# Altium schematic symbol library Converter_ACDC.SchLib: 233 symbols (part 1 of 3)
Pins are listed as number, name and electrical type; pins without a type are passive.

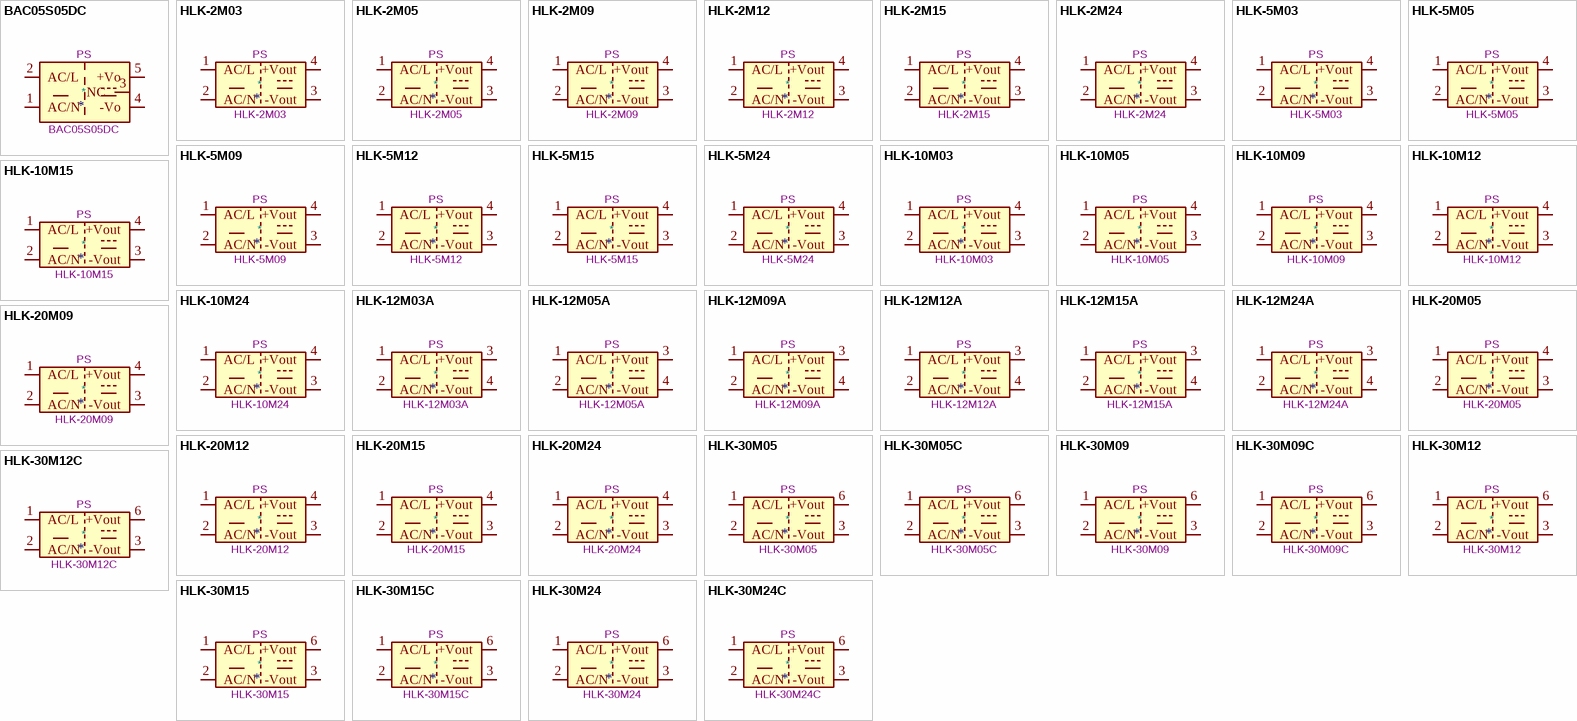
[diagram p0: symbols BAC05S05DC to HLK-30M24C]

## BAC05S05DC
designator *  value BAC05S05DC  Reference: PS
5V, 1A, 5W, Isolated, AC-DC; ki_keywords: Miniature Module-type Power Supply muRataPs; ki_fp_filters: Converter*ACDC*Murata*BAC05S*DC*THT*; Footprint: Converter_ACDC:Converter_ACDC_Murata_BAC05SxxDC_THT; Datasheet: https://www.murata.com/products/productdata/8809982558238/KAC-BAC05.pdf; Description_: 5V, 1A, 5W, Isolated, AC-DC
pins: 1 AC/N, 2 AC/L, 3 NC, 4 -Vo, 5 +Vo

## HLK-2M03
designator *  value HLK-2M03  Reference: PS
Compact AC/DC board mount power module 2W 3.3V; ki_keywords: AC/DC module power supply; ki_fp_filters: Converter*ACDC*Hi?Link*HLK?2M*; Footprint: Converter_ACDC:Converter_ACDC_Hi-Link_HLK-2Mxx; Datasheet: https://h.hlktech.com/download/ACDC%E7%94%B5%E6%BA%90%E6%A8%A1%E5%9D%972W%E7%B3%BB%E5%88%97/1/%E6%B5%B7%E5%87%8C%E7%A7%912W%E7%B3%BB%E5%88%97%E7%94%B5%E6%BA%90%E6%A8%A1%E5%9D%97%E8%AF%B4%E6%98%8E%E4%B9%A6V2.6.pdf; Description_: Compact AC/DC board mount power module 2W 3.3V
pins: 1 AC/L, 2 AC/N, 3 -Vout, 4 +Vout

## HLK-2M05
designator *  value HLK-2M05  Reference: PS
Compact AC/DC board mount power module 2W 5V; ki_keywords: AC/DC module power supply; ki_fp_filters: Converter*ACDC*Hi?Link*HLK?2M*; Footprint: Converter_ACDC:Converter_ACDC_Hi-Link_HLK-2Mxx; Datasheet: https://h.hlktech.com/download/ACDC%E7%94%B5%E6%BA%90%E6%A8%A1%E5%9D%972W%E7%B3%BB%E5%88%97/1/%E6%B5%B7%E5%87%8C%E7%A7%912W%E7%B3%BB%E5%88%97%E7%94%B5%E6%BA%90%E6%A8%A1%E5%9D%97%E8%AF%B4%E6%98%8E%E4%B9%A6V2.6.pdf; Description_: Compact AC/DC board mount power module 2W 5V
pins: 1 AC/L, 2 AC/N, 3 -Vout, 4 +Vout

## HLK-2M09
designator *  value HLK-2M09  Reference: PS
Compact AC/DC board mount power module 2W 9V; ki_keywords: AC/DC module power supply; ki_fp_filters: Converter*ACDC*Hi?Link*HLK?2M*; Footprint: Converter_ACDC:Converter_ACDC_Hi-Link_HLK-2Mxx; Datasheet: https://h.hlktech.com/download/ACDC%E7%94%B5%E6%BA%90%E6%A8%A1%E5%9D%972W%E7%B3%BB%E5%88%97/1/%E6%B5%B7%E5%87%8C%E7%A7%912W%E7%B3%BB%E5%88%97%E7%94%B5%E6%BA%90%E6%A8%A1%E5%9D%97%E8%AF%B4%E6%98%8E%E4%B9%A6V2.6.pdf; Description_: Compact AC/DC board mount power module 2W 9V
pins: 1 AC/L, 2 AC/N, 3 -Vout, 4 +Vout

## HLK-2M12
designator *  value HLK-2M12  Reference: PS
Compact AC/DC board mount power module 2W 12V; ki_keywords: AC/DC module power supply; ki_fp_filters: Converter*ACDC*Hi?Link*HLK?2M*; Footprint: Converter_ACDC:Converter_ACDC_Hi-Link_HLK-2Mxx; Datasheet: https://h.hlktech.com/download/ACDC%E7%94%B5%E6%BA%90%E6%A8%A1%E5%9D%972W%E7%B3%BB%E5%88%97/1/%E6%B5%B7%E5%87%8C%E7%A7%912W%E7%B3%BB%E5%88%97%E7%94%B5%E6%BA%90%E6%A8%A1%E5%9D%97%E8%AF%B4%E6%98%8E%E4%B9%A6V2.6.pdf; Description_: Compact AC/DC board mount power module 2W 12V
pins: 1 AC/L, 2 AC/N, 3 -Vout, 4 +Vout

## HLK-2M15
designator *  value HLK-2M15  Reference: PS
Compact AC/DC board mount power module 2W 15V; ki_keywords: AC/DC module power supply; ki_fp_filters: Converter*ACDC*Hi?Link*HLK?2M*; Footprint: Converter_ACDC:Converter_ACDC_Hi-Link_HLK-2Mxx; Datasheet: https://h.hlktech.com/download/ACDC%E7%94%B5%E6%BA%90%E6%A8%A1%E5%9D%972W%E7%B3%BB%E5%88%97/1/%E6%B5%B7%E5%87%8C%E7%A7%912W%E7%B3%BB%E5%88%97%E7%94%B5%E6%BA%90%E6%A8%A1%E5%9D%97%E8%AF%B4%E6%98%8E%E4%B9%A6V2.6.pdf; Description_: Compact AC/DC board mount power module 2W 15V
pins: 1 AC/L, 2 AC/N, 3 -Vout, 4 +Vout

## HLK-2M24
designator *  value HLK-2M24  Reference: PS
Compact AC/DC board mount power module 2W 24V; ki_keywords: AC/DC module power supply; ki_fp_filters: Converter*ACDC*Hi?Link*HLK?2M*; Footprint: Converter_ACDC:Converter_ACDC_Hi-Link_HLK-2Mxx; Datasheet: https://h.hlktech.com/download/ACDC%E7%94%B5%E6%BA%90%E6%A8%A1%E5%9D%972W%E7%B3%BB%E5%88%97/1/%E6%B5%B7%E5%87%8C%E7%A7%912W%E7%B3%BB%E5%88%97%E7%94%B5%E6%BA%90%E6%A8%A1%E5%9D%97%E8%AF%B4%E6%98%8E%E4%B9%A6V2.6.pdf; Description_: Compact AC/DC board mount power module 2W 24V
pins: 1 AC/L, 2 AC/N, 3 -Vout, 4 +Vout

## HLK-5M03
designator *  value HLK-5M03  Reference: PS
Compact AC/DC board mount power module 5W, 3.3V 1.5A; ki_keywords: AC/DC module power supply; ki_fp_filters: Converter*ACDC*Hi?Link*HLK?5M*; Footprint: Converter_ACDC:Converter_ACDC_Hi-Link_HLK-5Mxx; Datasheet: http://h.hlktech.com/download/ACDC%E7%94%B5%E6%BA%90%E6%A8%A1%E5%9D%975W%E7%B3%BB%E5%88%97/1/%E6%B5%B7%E5%87%8C%E7%A7%915W%E7%B3%BB%E5%88%97%E7%94%B5%E6%BA%90%E6%A8%A1%E5%9D%97%E8%A7%84%E6%A0%BC%E4%B9%A6V2.8.pdf; Description_: Compact AC/DC board mount power module 5W, 3.3V 1.5A
pins: 1 AC/L, 2 AC/N, 3 -Vout, 4 +Vout

## HLK-5M05
designator *  value HLK-5M05  Reference: PS
Compact AC/DC board mount power module 5W, 5V 1A; ki_keywords: AC/DC module power supply; ki_fp_filters: Converter*ACDC*Hi?Link*HLK?5M*; Footprint: Converter_ACDC:Converter_ACDC_Hi-Link_HLK-5Mxx; Datasheet: http://h.hlktech.com/download/ACDC%E7%94%B5%E6%BA%90%E6%A8%A1%E5%9D%975W%E7%B3%BB%E5%88%97/1/%E6%B5%B7%E5%87%8C%E7%A7%915W%E7%B3%BB%E5%88%97%E7%94%B5%E6%BA%90%E6%A8%A1%E5%9D%97%E8%A7%84%E6%A0%BC%E4%B9%A6V2.8.pdf; Description_: Compact AC/DC board mount power module 5W, 5V 1A
pins: 1 AC/L, 2 AC/N, 3 -Vout, 4 +Vout

## HLK-5M09
designator *  value HLK-5M09  Reference: PS
Compact AC/DC board mount power module 5W, 9V 0.560A; ki_keywords: AC/DC module power supply; ki_fp_filters: Converter*ACDC*Hi?Link*HLK?5M*; Footprint: Converter_ACDC:Converter_ACDC_Hi-Link_HLK-5Mxx; Datasheet: http://h.hlktech.com/download/ACDC%E7%94%B5%E6%BA%90%E6%A8%A1%E5%9D%975W%E7%B3%BB%E5%88%97/1/%E6%B5%B7%E5%87%8C%E7%A7%915W%E7%B3%BB%E5%88%97%E7%94%B5%E6%BA%90%E6%A8%A1%E5%9D%97%E8%A7%84%E6%A0%BC%E4%B9%A6V2.8.pdf; Description_: Compact AC/DC board mount power module 5W, 9V 0.560A
pins: 1 AC/L, 2 AC/N, 3 -Vout, 4 +Vout

## HLK-5M12
designator *  value HLK-5M12  Reference: PS
Compact AC/DC board mount power module 5W, 12V 0.420A; ki_keywords: AC/DC module power supply; ki_fp_filters: Converter*ACDC*Hi?Link*HLK?5M*; Footprint: Converter_ACDC:Converter_ACDC_Hi-Link_HLK-5Mxx; Datasheet: http://h.hlktech.com/download/ACDC%E7%94%B5%E6%BA%90%E6%A8%A1%E5%9D%975W%E7%B3%BB%E5%88%97/1/%E6%B5%B7%E5%87%8C%E7%A7%915W%E7%B3%BB%E5%88%97%E7%94%B5%E6%BA%90%E6%A8%A1%E5%9D%97%E8%A7%84%E6%A0%BC%E4%B9%A6V2.8.pdf; Description_: Compact AC/DC board mount power module 5W, 12V 0.420A
pins: 1 AC/L, 2 AC/N, 3 -Vout, 4 +Vout

## HLK-5M15
designator *  value HLK-5M15  Reference: PS
Compact AC/DC board mount power module 5W, 15V 0.333A; ki_keywords: AC/DC module power supply; ki_fp_filters: Converter*ACDC*Hi?Link*HLK?5M*; Footprint: Converter_ACDC:Converter_ACDC_Hi-Link_HLK-5Mxx; Datasheet: http://h.hlktech.com/download/ACDC%E7%94%B5%E6%BA%90%E6%A8%A1%E5%9D%975W%E7%B3%BB%E5%88%97/1/%E6%B5%B7%E5%87%8C%E7%A7%915W%E7%B3%BB%E5%88%97%E7%94%B5%E6%BA%90%E6%A8%A1%E5%9D%97%E8%A7%84%E6%A0%BC%E4%B9%A6V2.8.pdf; Description_: Compact AC/DC board mount power module 5W, 15V 0.333A
pins: 1 AC/L, 2 AC/N, 3 -Vout, 4 +Vout

## HLK-5M24
designator *  value HLK-5M24  Reference: PS
Compact AC/DC board mount power module 5W, 24V 0.208A; ki_keywords: AC/DC module power supply; ki_fp_filters: Converter*ACDC*Hi?Link*HLK?5M*; Footprint: Converter_ACDC:Converter_ACDC_Hi-Link_HLK-5Mxx; Datasheet: http://h.hlktech.com/download/ACDC%E7%94%B5%E6%BA%90%E6%A8%A1%E5%9D%975W%E7%B3%BB%E5%88%97/1/%E6%B5%B7%E5%87%8C%E7%A7%915W%E7%B3%BB%E5%88%97%E7%94%B5%E6%BA%90%E6%A8%A1%E5%9D%97%E8%A7%84%E6%A0%BC%E4%B9%A6V2.8.pdf; Description_: Compact AC/DC board mount power module 5W, 24V 0.208A
pins: 1 AC/L, 2 AC/N, 3 -Vout, 4 +Vout

## HLK-10M03
designator *  value HLK-10M03  Reference: PS
Compact AC/DC board mount power module 10W 3.3V; ki_keywords: AC/DC module power supply; ki_fp_filters: Converter*ACDC*Hi?Link*HLK?10M*; Footprint: Converter_ACDC:Converter_ACDC_Hi-Link_HLK-10Mxx; Datasheet: http://h.hlktech.com/download/ACDC%E7%94%B5%E6%BA%90%E6%A8%A1%E5%9D%9710W%E7%B3%BB%E5%88%97/1/%E6%B5%B7%E5%87%8C%E7%A7%9110W%E7%B3%BB%E5%88%97%E7%94%B5%E6%BA%90%E6%A8%A1%E5%9D%97%E8%A7%84%E6%A0%BC%E4%B9%A6V1.8.pdf; Description_: Compact AC/DC board mount power module 10W 3.3V
pins: 1 AC/L, 2 AC/N, 3 -Vout, 4 +Vout

## HLK-10M05
designator *  value HLK-10M05  Reference: PS
Compact AC/DC board mount power module 10W 5V; ki_keywords: AC/DC module power supply; ki_fp_filters: Converter*ACDC*Hi?Link*HLK?10M*; Footprint: Converter_ACDC:Converter_ACDC_Hi-Link_HLK-10Mxx; Datasheet: http://h.hlktech.com/download/ACDC%E7%94%B5%E6%BA%90%E6%A8%A1%E5%9D%9710W%E7%B3%BB%E5%88%97/1/%E6%B5%B7%E5%87%8C%E7%A7%9110W%E7%B3%BB%E5%88%97%E7%94%B5%E6%BA%90%E6%A8%A1%E5%9D%97%E8%A7%84%E6%A0%BC%E4%B9%A6V1.8.pdf; Description_: Compact AC/DC board mount power module 10W 5V
pins: 1 AC/L, 2 AC/N, 3 -Vout, 4 +Vout

## HLK-10M09
designator *  value HLK-10M09  Reference: PS
Compact AC/DC board mount power module 10W 9V; ki_keywords: AC/DC module power supply; ki_fp_filters: Converter*ACDC*Hi?Link*HLK?10M*; Footprint: Converter_ACDC:Converter_ACDC_Hi-Link_HLK-10Mxx; Datasheet: http://h.hlktech.com/download/ACDC%E7%94%B5%E6%BA%90%E6%A8%A1%E5%9D%9710W%E7%B3%BB%E5%88%97/1/%E6%B5%B7%E5%87%8C%E7%A7%9110W%E7%B3%BB%E5%88%97%E7%94%B5%E6%BA%90%E6%A8%A1%E5%9D%97%E8%A7%84%E6%A0%BC%E4%B9%A6V1.8.pdf; Description_: Compact AC/DC board mount power module 10W 9V
pins: 1 AC/L, 2 AC/N, 3 -Vout, 4 +Vout

## HLK-10M12
designator *  value HLK-10M12  Reference: PS
Compact AC/DC board mount power module 10W 12V; ki_keywords: AC/DC module power supply; ki_fp_filters: Converter*ACDC*Hi?Link*HLK?10M*; Footprint: Converter_ACDC:Converter_ACDC_Hi-Link_HLK-10Mxx; Datasheet: http://h.hlktech.com/download/ACDC%E7%94%B5%E6%BA%90%E6%A8%A1%E5%9D%9710W%E7%B3%BB%E5%88%97/1/%E6%B5%B7%E5%87%8C%E7%A7%9110W%E7%B3%BB%E5%88%97%E7%94%B5%E6%BA%90%E6%A8%A1%E5%9D%97%E8%A7%84%E6%A0%BC%E4%B9%A6V1.8.pdf; Description_: Compact AC/DC board mount power module 10W 12V
pins: 1 AC/L, 2 AC/N, 3 -Vout, 4 +Vout

## HLK-10M15
designator *  value HLK-10M15  Reference: PS
Compact AC/DC board mount power module 10W 15V; ki_keywords: AC/DC module power supply; ki_fp_filters: Converter*ACDC*Hi?Link*HLK?10M*; Footprint: Converter_ACDC:Converter_ACDC_Hi-Link_HLK-10Mxx; Datasheet: http://h.hlktech.com/download/ACDC%E7%94%B5%E6%BA%90%E6%A8%A1%E5%9D%9710W%E7%B3%BB%E5%88%97/1/%E6%B5%B7%E5%87%8C%E7%A7%9110W%E7%B3%BB%E5%88%97%E7%94%B5%E6%BA%90%E6%A8%A1%E5%9D%97%E8%A7%84%E6%A0%BC%E4%B9%A6V1.8.pdf; Description_: Compact AC/DC board mount power module 10W 15V
pins: 1 AC/L, 2 AC/N, 3 -Vout, 4 +Vout

## HLK-10M24
designator *  value HLK-10M24  Reference: PS
Compact AC/DC board mount power module 10W 24V; ki_keywords: AC/DC module power supply; ki_fp_filters: Converter*ACDC*Hi?Link*HLK?10M*; Footprint: Converter_ACDC:Converter_ACDC_Hi-Link_HLK-10Mxx; Datasheet: http://h.hlktech.com/download/ACDC%E7%94%B5%E6%BA%90%E6%A8%A1%E5%9D%9710W%E7%B3%BB%E5%88%97/1/%E6%B5%B7%E5%87%8C%E7%A7%9110W%E7%B3%BB%E5%88%97%E7%94%B5%E6%BA%90%E6%A8%A1%E5%9D%97%E8%A7%84%E6%A0%BC%E4%B9%A6V1.8.pdf; Description_: Compact AC/DC board mount power module 10W 24V
pins: 1 AC/L, 2 AC/N, 3 -Vout, 4 +Vout

## HLK-12M03A
designator *  value HLK-12M03A  Reference: PS
Compact AC/DC board mount power module 12W 3.3V; ki_keywords: AC/DC module power supply; ki_fp_filters: Converter*ACDC*Hi?Link*HLK?12M*; Footprint: Converter_ACDC:Converter_ACDC_Hi-Link_HLK-12MxxA; Datasheet: https://h.hlktech.com/download/ACDC%E7%94%B5%E6%BA%90%E6%A8%A1%E5%9D%9712W%E7%B3%BB%E5%88%97/1/12W%E7%B3%BB%E5%88%97%E8%A7%84%E6%A0%BC%E4%B9%A6.pdf; Description_: Compact AC/DC board mount power module 12W 3.3V
pins: 1 AC/L, 2 AC/N, 3 +Vout, 4 -Vout

## HLK-12M05A
designator *  value HLK-12M05A  Reference: PS
Compact AC/DC board mount power module 12W 5V; ki_keywords: AC/DC module power supply; ki_fp_filters: Converter*ACDC*Hi?Link*HLK?12M*; Footprint: Converter_ACDC:Converter_ACDC_Hi-Link_HLK-12MxxA; Datasheet: https://h.hlktech.com/download/ACDC%E7%94%B5%E6%BA%90%E6%A8%A1%E5%9D%9712W%E7%B3%BB%E5%88%97/1/12W%E7%B3%BB%E5%88%97%E8%A7%84%E6%A0%BC%E4%B9%A6.pdf; Description_: Compact AC/DC board mount power module 12W 5V
pins: 1 AC/L, 2 AC/N, 3 +Vout, 4 -Vout

## HLK-12M09A
designator *  value HLK-12M09A  Reference: PS
Compact AC/DC board mount power module 12W 9V; ki_keywords: AC/DC module power supply; ki_fp_filters: Converter*ACDC*Hi?Link*HLK?12M*; Footprint: Converter_ACDC:Converter_ACDC_Hi-Link_HLK-12MxxA; Datasheet: https://h.hlktech.com/download/ACDC%E7%94%B5%E6%BA%90%E6%A8%A1%E5%9D%9712W%E7%B3%BB%E5%88%97/1/12W%E7%B3%BB%E5%88%97%E8%A7%84%E6%A0%BC%E4%B9%A6.pdf; Description_: Compact AC/DC board mount power module 12W 9V
pins: 1 AC/L, 2 AC/N, 3 +Vout, 4 -Vout

## HLK-12M12A
designator *  value HLK-12M12A  Reference: PS
Compact AC/DC board mount power module 12W 12V; ki_keywords: AC/DC module power supply; ki_fp_filters: Converter*ACDC*Hi?Link*HLK?12M*; Footprint: Converter_ACDC:Converter_ACDC_Hi-Link_HLK-12MxxA; Datasheet: https://h.hlktech.com/download/ACDC%E7%94%B5%E6%BA%90%E6%A8%A1%E5%9D%9712W%E7%B3%BB%E5%88%97/1/12W%E7%B3%BB%E5%88%97%E8%A7%84%E6%A0%BC%E4%B9%A6.pdf; Description_: Compact AC/DC board mount power module 12W 12V
pins: 1 AC/L, 2 AC/N, 3 +Vout, 4 -Vout

## HLK-12M15A
designator *  value HLK-12M15A  Reference: PS
Compact AC/DC board mount power module 12W 15V; ki_keywords: AC/DC module power supply; ki_fp_filters: Converter*ACDC*Hi?Link*HLK?12M*; Footprint: Converter_ACDC:Converter_ACDC_Hi-Link_HLK-12MxxA; Datasheet: https://h.hlktech.com/download/ACDC%E7%94%B5%E6%BA%90%E6%A8%A1%E5%9D%9712W%E7%B3%BB%E5%88%97/1/12W%E7%B3%BB%E5%88%97%E8%A7%84%E6%A0%BC%E4%B9%A6.pdf; Description_: Compact AC/DC board mount power module 12W 15V
pins: 1 AC/L, 2 AC/N, 3 +Vout, 4 -Vout

## HLK-12M24A
designator *  value HLK-12M24A  Reference: PS
Compact AC/DC board mount power module 12W 24V; ki_keywords: AC/DC module power supply; ki_fp_filters: Converter*ACDC*Hi?Link*HLK?12M*; Footprint: Converter_ACDC:Converter_ACDC_Hi-Link_HLK-12MxxA; Datasheet: https://h.hlktech.com/download/ACDC%E7%94%B5%E6%BA%90%E6%A8%A1%E5%9D%9712W%E7%B3%BB%E5%88%97/1/12W%E7%B3%BB%E5%88%97%E8%A7%84%E6%A0%BC%E4%B9%A6.pdf; Description_: Compact AC/DC board mount power module 12W 24V
pins: 1 AC/L, 2 AC/N, 3 +Vout, 4 -Vout

## HLK-20M05
designator *  value HLK-20M05  Reference: PS
Compact AC/DC board mount power module 20W 5V; ki_keywords: AC/DC module power supply; ki_fp_filters: Converter*ACDC*Hi?Link*HLK?20M*; Footprint: Converter_ACDC:Converter_ACDC_Hi-Link_HLK-20Mxx; Datasheet: https://h.hlktech.com/download/ACDC%E7%94%B5%E6%BA%90%E6%A8%A1%E5%9D%9720W%E7%B3%BB%E5%88%97/1/%E6%B5%B7%E5%87%8C%E7%A7%9120W%E7%B3%BB%E5%88%97%E7%94%B5%E6%BA%90%E6%A8%A1%E5%9D%97%E8%A7%84%E6%A0%BC%E4%B9%A6V1.6.pdf; Description_: Compact AC/DC board mount power module 20W 5V
pins: 1 AC/L, 2 AC/N, 3 -Vout, 4 +Vout

## HLK-20M09
designator *  value HLK-20M09  Reference: PS
Compact AC/DC board mount power module 20W 9V; ki_keywords: AC/DC module power supply; ki_fp_filters: Converter*ACDC*Hi?Link*HLK?20M*; Footprint: Converter_ACDC:Converter_ACDC_Hi-Link_HLK-20Mxx; Datasheet: https://h.hlktech.com/download/ACDC%E7%94%B5%E6%BA%90%E6%A8%A1%E5%9D%9720W%E7%B3%BB%E5%88%97/1/%E6%B5%B7%E5%87%8C%E7%A7%9120W%E7%B3%BB%E5%88%97%E7%94%B5%E6%BA%90%E6%A8%A1%E5%9D%97%E8%A7%84%E6%A0%BC%E4%B9%A6V1.6.pdf; Description_: Compact AC/DC board mount power module 20W 9V
pins: 1 AC/L, 2 AC/N, 3 -Vout, 4 +Vout

## HLK-20M12
designator *  value HLK-20M12  Reference: PS
Compact AC/DC board mount power module 20W 12V; ki_keywords: AC/DC module power supply; ki_fp_filters: Converter*ACDC*Hi?Link*HLK?20M*; Footprint: Converter_ACDC:Converter_ACDC_Hi-Link_HLK-20Mxx; Datasheet: https://h.hlktech.com/download/ACDC%E7%94%B5%E6%BA%90%E6%A8%A1%E5%9D%9720W%E7%B3%BB%E5%88%97/1/%E6%B5%B7%E5%87%8C%E7%A7%9120W%E7%B3%BB%E5%88%97%E7%94%B5%E6%BA%90%E6%A8%A1%E5%9D%97%E8%A7%84%E6%A0%BC%E4%B9%A6V1.6.pdf; Description_: Compact AC/DC board mount power module 20W 12V
pins: 1 AC/L, 2 AC/N, 3 -Vout, 4 +Vout

## HLK-20M15
designator *  value HLK-20M15  Reference: PS
Compact AC/DC board mount power module 20W 15V; ki_keywords: AC/DC module power supply; ki_fp_filters: Converter*ACDC*Hi?Link*HLK?20M*; Footprint: Converter_ACDC:Converter_ACDC_Hi-Link_HLK-20Mxx; Datasheet: https://h.hlktech.com/download/ACDC%E7%94%B5%E6%BA%90%E6%A8%A1%E5%9D%9720W%E7%B3%BB%E5%88%97/1/%E6%B5%B7%E5%87%8C%E7%A7%9120W%E7%B3%BB%E5%88%97%E7%94%B5%E6%BA%90%E6%A8%A1%E5%9D%97%E8%A7%84%E6%A0%BC%E4%B9%A6V1.6.pdf; Description_: Compact AC/DC board mount power module 20W 15V
pins: 1 AC/L, 2 AC/N, 3 -Vout, 4 +Vout

## HLK-20M24
designator *  value HLK-20M24  Reference: PS
Compact AC/DC board mount power module 20W 24V; ki_keywords: AC/DC module power supply; ki_fp_filters: Converter*ACDC*Hi?Link*HLK?20M*; Footprint: Converter_ACDC:Converter_ACDC_Hi-Link_HLK-20Mxx; Datasheet: https://h.hlktech.com/download/ACDC%E7%94%B5%E6%BA%90%E6%A8%A1%E5%9D%9720W%E7%B3%BB%E5%88%97/1/%E6%B5%B7%E5%87%8C%E7%A7%9120W%E7%B3%BB%E5%88%97%E7%94%B5%E6%BA%90%E6%A8%A1%E5%9D%97%E8%A7%84%E6%A0%BC%E4%B9%A6V1.6.pdf; Description_: Compact AC/DC board mount power module 20W 24V
pins: 1 AC/L, 2 AC/N, 3 -Vout, 4 +Vout

## HLK-30M05
designator *  value HLK-30M05  Reference: PS
Compact AC/DC board mount power module 30W 5V; ki_keywords: AC/DC module power supply; ki_fp_filters: Converter*ACDC*Hi?Link*HLK?30M*; Footprint: Converter_ACDC:Converter_ACDC_Hi-Link_HLK-30Mxx; Datasheet: https://h.hlktech.com/download/ACDC%E7%94%B5%E6%BA%90%E6%A8%A1%E5%9D%9730W%E7%B3%BB%E5%88%97/1/%E6%B5%B7%E5%87%8C%E7%A7%9130W%E7%B3%BB%E5%88%97%E7%94%B5%E6%BA%90%E6%A8%A1%E5%9D%97%E8%A7%84%E6%A0%BC%E4%B9%A6V1.6.pdf; Description_: Compact AC/DC board mount power module 30W 5V
pins: 1 AC/L, 2 AC/N, 3 -Vout, 6 +Vout

## HLK-30M05C
designator *  value HLK-30M05C  Reference: PS
Compact AC/DC board mount power module 30W 5V; ki_keywords: AC/DC module power supply; ki_fp_filters: Converter*ACDC*Hi?Link*HLK?30M*; Footprint: Converter_ACDC:Converter_ACDC_Hi-Link_HLK-30Mxx; Datasheet: https://h.hlktech.com/download/ACDC%E7%94%B5%E6%BA%90%E6%A8%A1%E5%9D%9730W%E7%B3%BB%E5%88%97/1/%E6%B5%B7%E5%87%8C%E7%A7%9130WC%E7%B3%BB%E5%88%97%E7%94%B5%E6%BA%90%E6%A8%A1%E5%9D%97%E8%A7%84%E6%A0%BC%E4%B9%A6V1.2.pdf; Description_: Compact AC/DC board mount power module 30W 5V
pins: 1 AC/L, 2 AC/N, 3 -Vout, 6 +Vout

## HLK-30M09
designator *  value HLK-30M09  Reference: PS
Compact AC/DC board mount power module 30W 9V; ki_keywords: AC/DC module power supply; ki_fp_filters: Converter*ACDC*Hi?Link*HLK?30M*; Footprint: Converter_ACDC:Converter_ACDC_Hi-Link_HLK-30Mxx; Datasheet: https://h.hlktech.com/download/ACDC%E7%94%B5%E6%BA%90%E6%A8%A1%E5%9D%9730W%E7%B3%BB%E5%88%97/1/%E6%B5%B7%E5%87%8C%E7%A7%9130W%E7%B3%BB%E5%88%97%E7%94%B5%E6%BA%90%E6%A8%A1%E5%9D%97%E8%A7%84%E6%A0%BC%E4%B9%A6V1.6.pdf; Description_: Compact AC/DC board mount power module 30W 9V
pins: 1 AC/L, 2 AC/N, 3 -Vout, 6 +Vout

## HLK-30M09C
designator *  value HLK-30M09C  Reference: PS
Compact AC/DC board mount power module 30W 9V; ki_keywords: AC/DC module power supply; ki_fp_filters: Converter*ACDC*Hi?Link*HLK?30M*; Footprint: Converter_ACDC:Converter_ACDC_Hi-Link_HLK-30Mxx; Datasheet: https://h.hlktech.com/download/ACDC%E7%94%B5%E6%BA%90%E6%A8%A1%E5%9D%9730W%E7%B3%BB%E5%88%97/1/%E6%B5%B7%E5%87%8C%E7%A7%9130WC%E7%B3%BB%E5%88%97%E7%94%B5%E6%BA%90%E6%A8%A1%E5%9D%97%E8%A7%84%E6%A0%BC%E4%B9%A6V1.2.pdf; Description_: Compact AC/DC board mount power module 30W 9V
pins: 1 AC/L, 2 AC/N, 3 -Vout, 6 +Vout

## HLK-30M12
designator *  value HLK-30M12  Reference: PS
Compact AC/DC board mount power module 30W 12V; ki_keywords: AC/DC module power supply; ki_fp_filters: Converter*ACDC*Hi?Link*HLK?30M*; Footprint: Converter_ACDC:Converter_ACDC_Hi-Link_HLK-30Mxx; Datasheet: https://h.hlktech.com/download/ACDC%E7%94%B5%E6%BA%90%E6%A8%A1%E5%9D%9730W%E7%B3%BB%E5%88%97/1/%E6%B5%B7%E5%87%8C%E7%A7%9130W%E7%B3%BB%E5%88%97%E7%94%B5%E6%BA%90%E6%A8%A1%E5%9D%97%E8%A7%84%E6%A0%BC%E4%B9%A6V1.6.pdf; Description_: Compact AC/DC board mount power module 30W 12V
pins: 1 AC/L, 2 AC/N, 3 -Vout, 6 +Vout

## HLK-30M12C
designator *  value HLK-30M12C  Reference: PS
Compact AC/DC board mount power module 30W 12V; ki_keywords: AC/DC module power supply; ki_fp_filters: Converter*ACDC*Hi?Link*HLK?30M*; Footprint: Converter_ACDC:Converter_ACDC_Hi-Link_HLK-30Mxx; Datasheet: https://h.hlktech.com/download/ACDC%E7%94%B5%E6%BA%90%E6%A8%A1%E5%9D%9730W%E7%B3%BB%E5%88%97/1/%E6%B5%B7%E5%87%8C%E7%A7%9130WC%E7%B3%BB%E5%88%97%E7%94%B5%E6%BA%90%E6%A8%A1%E5%9D%97%E8%A7%84%E6%A0%BC%E4%B9%A6V1.2.pdf; Description_: Compact AC/DC board mount power module 30W 12V
pins: 1 AC/L, 2 AC/N, 3 -Vout, 6 +Vout

## HLK-30M15
designator *  value HLK-30M15  Reference: PS
Compact AC/DC board mount power module 30W 15V; ki_keywords: AC/DC module power supply; ki_fp_filters: Converter*ACDC*Hi?Link*HLK?30M*; Footprint: Converter_ACDC:Converter_ACDC_Hi-Link_HLK-30Mxx; Datasheet: https://h.hlktech.com/download/ACDC%E7%94%B5%E6%BA%90%E6%A8%A1%E5%9D%9730W%E7%B3%BB%E5%88%97/1/%E6%B5%B7%E5%87%8C%E7%A7%9130W%E7%B3%BB%E5%88%97%E7%94%B5%E6%BA%90%E6%A8%A1%E5%9D%97%E8%A7%84%E6%A0%BC%E4%B9%A6V1.6.pdf; Description_: Compact AC/DC board mount power module 30W 15V
pins: 1 AC/L, 2 AC/N, 3 -Vout, 6 +Vout

## HLK-30M15C
designator *  value HLK-30M15C  Reference: PS
Compact AC/DC board mount power module 30W 15V; ki_keywords: AC/DC module power supply; ki_fp_filters: Converter*ACDC*Hi?Link*HLK?30M*; Footprint: Converter_ACDC:Converter_ACDC_Hi-Link_HLK-30Mxx; Datasheet: https://h.hlktech.com/download/ACDC%E7%94%B5%E6%BA%90%E6%A8%A1%E5%9D%9730W%E7%B3%BB%E5%88%97/1/%E6%B5%B7%E5%87%8C%E7%A7%9130WC%E7%B3%BB%E5%88%97%E7%94%B5%E6%BA%90%E6%A8%A1%E5%9D%97%E8%A7%84%E6%A0%BC%E4%B9%A6V1.2.pdf; Description_: Compact AC/DC board mount power module 30W 15V
pins: 1 AC/L, 2 AC/N, 3 -Vout, 6 +Vout

## HLK-30M24
designator *  value HLK-30M24  Reference: PS
Compact AC/DC board mount power module 30W 24V; ki_keywords: AC/DC module power supply; ki_fp_filters: Converter*ACDC*Hi?Link*HLK?30M*; Footprint: Converter_ACDC:Converter_ACDC_Hi-Link_HLK-30Mxx; Datasheet: https://h.hlktech.com/download/ACDC%E7%94%B5%E6%BA%90%E6%A8%A1%E5%9D%9730W%E7%B3%BB%E5%88%97/1/%E6%B5%B7%E5%87%8C%E7%A7%9130W%E7%B3%BB%E5%88%97%E7%94%B5%E6%BA%90%E6%A8%A1%E5%9D%97%E8%A7%84%E6%A0%BC%E4%B9%A6V1.6.pdf; Description_: Compact AC/DC board mount power module 30W 24V
pins: 1 AC/L, 2 AC/N, 3 -Vout, 6 +Vout

## HLK-30M24C
designator *  value HLK-30M24C  Reference: PS
Compact AC/DC board mount power module 30W 24V; ki_keywords: AC/DC module power supply; ki_fp_filters: Converter*ACDC*Hi?Link*HLK?30M*; Footprint: Converter_ACDC:Converter_ACDC_Hi-Link_HLK-30Mxx; Datasheet: https://h.hlktech.com/download/ACDC%E7%94%B5%E6%BA%90%E6%A8%A1%E5%9D%9730W%E7%B3%BB%E5%88%97/1/%E6%B5%B7%E5%87%8C%E7%A7%9130WC%E7%B3%BB%E5%88%97%E7%94%B5%E6%BA%90%E6%A8%A1%E5%9D%97%E8%A7%84%E6%A0%BC%E4%B9%A6V1.2.pdf; Description_: Compact AC/DC board mount power module 30W 24V
pins: 1 AC/L, 2 AC/N, 3 -Vout, 6 +Vout

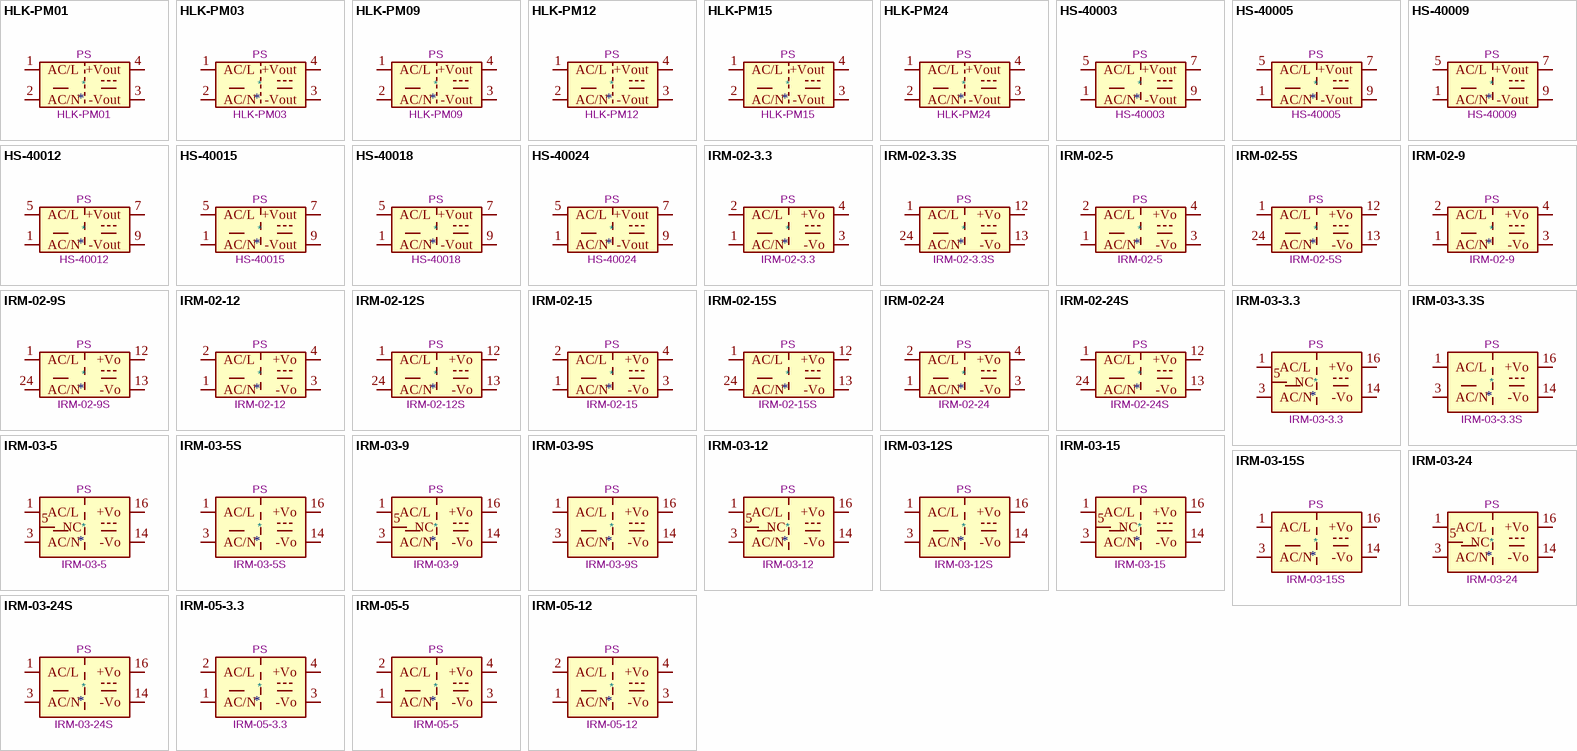
[diagram p1: symbols HLK-PM01 to IRM-05-12]

## HLK-PM01
designator *  value HLK-PM01  Reference: PS
Compact AC/DC board mount power module 3W 5V; ki_keywords: AC/DC module power supply; ki_fp_filters: Converter*ACDC*Hi?Link*HLK?PM*; Footprint: Converter_ACDC:Converter_ACDC_Hi-Link_HLK-PMxx; Datasheet: https://h.hlktech.com/download/ACDC%E7%94%B5%E6%BA%90%E6%A8%A1%E5%9D%973W%E7%B3%BB%E5%88%97/1/%E6%B5%B7%E5%87%8C%E7%A7%913W%E7%B3%BB%E5%88%97%E7%94%B5%E6%BA%90%E6%A8%A1%E5%9D%97%E8%A7%84%E6%A0%BC%E4%B9%A6V2.8.pdf; Description_: Compact AC/DC board mount power module 3W 5V
pins: 1 AC/L, 2 AC/N, 3 -Vout, 4 +Vout

## HLK-PM03
designator *  value HLK-PM03  Reference: PS
Compact AC/DC board mount power module 3W 3V3; ki_keywords: AC/DC module power supply; ki_fp_filters: Converter*ACDC*Hi?Link*HLK?PM*; Footprint: Converter_ACDC:Converter_ACDC_Hi-Link_HLK-PMxx; Datasheet: https://h.hlktech.com/download/ACDC%E7%94%B5%E6%BA%90%E6%A8%A1%E5%9D%973W%E7%B3%BB%E5%88%97/1/%E6%B5%B7%E5%87%8C%E7%A7%913W%E7%B3%BB%E5%88%97%E7%94%B5%E6%BA%90%E6%A8%A1%E5%9D%97%E8%A7%84%E6%A0%BC%E4%B9%A6V2.8.pdf; Description_: Compact AC/DC board mount power module 3W 3V3
pins: 1 AC/L, 2 AC/N, 3 -Vout, 4 +Vout

## HLK-PM09
designator *  value HLK-PM09  Reference: PS
Compact AC/DC board mount power module 3W 9V; ki_keywords: AC/DC module power supply; ki_fp_filters: Converter*ACDC*Hi?Link*HLK?PM*; Footprint: Converter_ACDC:Converter_ACDC_Hi-Link_HLK-PMxx; Datasheet: https://h.hlktech.com/download/ACDC%E7%94%B5%E6%BA%90%E6%A8%A1%E5%9D%973W%E7%B3%BB%E5%88%97/1/%E6%B5%B7%E5%87%8C%E7%A7%913W%E7%B3%BB%E5%88%97%E7%94%B5%E6%BA%90%E6%A8%A1%E5%9D%97%E8%A7%84%E6%A0%BC%E4%B9%A6V2.8.pdf; Description_: Compact AC/DC board mount power module 3W 9V
pins: 1 AC/L, 2 AC/N, 3 -Vout, 4 +Vout

## HLK-PM12
designator *  value HLK-PM12  Reference: PS
Compact AC/DC board mount power module 3W 12V; ki_keywords: AC/DC module power supply; ki_fp_filters: Converter*ACDC*Hi?Link*HLK?PM*; Footprint: Converter_ACDC:Converter_ACDC_Hi-Link_HLK-PMxx; Datasheet: https://h.hlktech.com/download/ACDC%E7%94%B5%E6%BA%90%E6%A8%A1%E5%9D%973W%E7%B3%BB%E5%88%97/1/%E6%B5%B7%E5%87%8C%E7%A7%913W%E7%B3%BB%E5%88%97%E7%94%B5%E6%BA%90%E6%A8%A1%E5%9D%97%E8%A7%84%E6%A0%BC%E4%B9%A6V2.8.pdf; Description_: Compact AC/DC board mount power module 3W 12V
pins: 1 AC/L, 2 AC/N, 3 -Vout, 4 +Vout

## HLK-PM15
designator *  value HLK-PM15  Reference: PS
Compact AC/DC board mount power module 3W 15V; ki_keywords: AC/DC module power supply; ki_fp_filters: Converter*ACDC*Hi?Link*HLK?PM*; Footprint: Converter_ACDC:Converter_ACDC_Hi-Link_HLK-PMxx; Datasheet: https://h.hlktech.com/download/ACDC%E7%94%B5%E6%BA%90%E6%A8%A1%E5%9D%973W%E7%B3%BB%E5%88%97/1/%E6%B5%B7%E5%87%8C%E7%A7%913W%E7%B3%BB%E5%88%97%E7%94%B5%E6%BA%90%E6%A8%A1%E5%9D%97%E8%A7%84%E6%A0%BC%E4%B9%A6V2.8.pdf; Description_: Compact AC/DC board mount power module 3W 15V
pins: 1 AC/L, 2 AC/N, 3 -Vout, 4 +Vout

## HLK-PM24
designator *  value HLK-PM24  Reference: PS
Compact AC/DC board mount power module 3W 24V; ki_keywords: AC/DC module power supply; ki_fp_filters: Converter*ACDC*Hi?Link*HLK?PM*; Footprint: Converter_ACDC:Converter_ACDC_Hi-Link_HLK-PMxx; Datasheet: https://h.hlktech.com/download/ACDC%E7%94%B5%E6%BA%90%E6%A8%A1%E5%9D%973W%E7%B3%BB%E5%88%97/1/%E6%B5%B7%E5%87%8C%E7%A7%913W%E7%B3%BB%E5%88%97%E7%94%B5%E6%BA%90%E6%A8%A1%E5%9D%97%E8%A7%84%E6%A0%BC%E4%B9%A6V2.8.pdf; Description_: Compact AC/DC board mount power module 3W 24V
pins: 1 AC/L, 2 AC/N, 3 -Vout, 4 +Vout

## HS-40003
designator *  value HS-40003  Reference: PS
3.3V, 3W, AC-DC module power supply, Hahn; ki_keywords: 3.3V 3W AC-DC module power supply; ki_fp_filters: Converter*ACDC*Hahn*HS*400xx*; Footprint: Converter_ACDC:Converter_ACDC_Hahn_HS-400xx_THT; Datasheet: http://www.tme.eu/de/Document/d4b3c52125889c3435af182c9515c76b/HS40003.pdf; Description_: 3.3V, 3W, AC-DC module power supply, Hahn
pins: 1 AC/N, 5 AC/L, 7 +Vout, 9 -Vout

## HS-40005
designator *  value HS-40005  Reference: PS
5V, 3W, AC-DC module power supply, Hahn; ki_keywords: 5V 3W AC-DC module power supply; ki_fp_filters: Converter*ACDC*Hahn*HS*400xx*; Footprint: Converter_ACDC:Converter_ACDC_Hahn_HS-400xx_THT; Datasheet: http://www.tme.eu/de/Document/996b08915f81126361ce1f9c12d2f8b9/HS40005.pdf; Description_: 5V, 3W, AC-DC module power supply, Hahn
pins: 1 AC/N, 5 AC/L, 7 +Vout, 9 -Vout

## HS-40009
designator *  value HS-40009  Reference: PS
9V, 3W, AC-DC module power supply, Hahn; ki_keywords: 9V 3W AC-DC module power supply; ki_fp_filters: Converter*ACDC*Hahn*HS*400xx*; Footprint: Converter_ACDC:Converter_ACDC_Hahn_HS-400xx_THT; Datasheet: http://www.tme.eu/de/Document/cd3ff0c74e0c3bb183174aa10baf8730/HS40009.pdf; Description_: 9V, 3W, AC-DC module power supply, Hahn
pins: 1 AC/N, 5 AC/L, 7 +Vout, 9 -Vout

## HS-40012
designator *  value HS-40012  Reference: PS
12V, 3W, AC-DC module power supply, Hahn; ki_keywords: 12V 3W AC-DC module power supply; ki_fp_filters: Converter*ACDC*Hahn*HS*400xx*; Footprint: Converter_ACDC:Converter_ACDC_Hahn_HS-400xx_THT; Datasheet: http://www.tme.eu/de/Document/221b247820f4fbb72e0cbc1ee10acb85/HS40012.pdf; Description_: 12V, 3W, AC-DC module power supply, Hahn
pins: 1 AC/N, 5 AC/L, 7 +Vout, 9 -Vout

## HS-40015
designator *  value HS-40015  Reference: PS
15V, 3W, AC-DC module power supply, Hahn; ki_keywords: 15V 3W AC-DC module power supply; ki_fp_filters: Converter*ACDC*Hahn*HS*400xx*; Footprint: Converter_ACDC:Converter_ACDC_Hahn_HS-400xx_THT; Datasheet: https://www.schukat.com/schukat/pdf.nsf/index/956F3869A8D071A1C1257B810041B129/$file/HS-40015-Serie%20Schemazeichnung-A3%20(1).pdf; Description_: 15V, 3W, AC-DC module power supply, Hahn
pins: 1 AC/N, 5 AC/L, 7 +Vout, 9 -Vout

## HS-40018
designator *  value HS-40018  Reference: PS
18V, 3W, AC-DC module power supply, Hahn; ki_keywords: 18V 3W AC-DC module power supply; ki_fp_filters: Converter*ACDC*Hahn*HS*400xx*; Footprint: Converter_ACDC:Converter_ACDC_Hahn_HS-400xx_THT; Datasheet: https://www.schukat.com/schukat/pdf.nsf/index/6A4EEAC16DA84B74C1257B810041DC7B/$file/HS-40018-Serie%20Schemazeichnung-A3%20(1).pdf; Description_: 18V, 3W, AC-DC module power supply, Hahn
pins: 1 AC/N, 5 AC/L, 7 +Vout, 9 -Vout

## HS-40024
designator *  value HS-40024  Reference: PS
24V, 3W, AC-DC module power supply, Hahn; ki_keywords: 24V 3W AC-DC module power supply; ki_fp_filters: Converter*ACDC*Hahn*HS*400xx*; Footprint: Converter_ACDC:Converter_ACDC_Hahn_HS-400xx_THT; Datasheet: https://www.schukat.com/schukat/pdf.nsf/index/17647BA7403E2D39C1257B810041F34E/$file/HS-40024-Serie%20Schemazeichnung-A3%20(1).pdf; Description_: 24V, 3W, AC-DC module power supply, Hahn
pins: 1 AC/N, 5 AC/L, 7 +Vout, 9 -Vout

## IRM-02-3.3
designator *  value IRM-02-3.3  Reference: PS
3.3V, 600mA, 2W, Isolated, AC-DC, IRM02; ki_keywords: Miniature Module-type Power Supply MeanWell; ki_fp_filters: Converter*ACDC*MeanWell*IRM*02*THT*; Footprint: Converter_ACDC:Converter_ACDC_MeanWell_IRM-02-xx_THT; Datasheet: https://www.meanwell.com/Upload/PDF/IRM-02/IRM-02-SPEC.PDF; Description_: 3.3V, 600mA, 2W, Isolated, AC-DC, IRM02
pins: 1 AC/N, 2 AC/L, 3 -Vo, 4 +Vo

## IRM-02-3.3S
designator *  value IRM-02-3.3S  Reference: PS
3.3V, 600mA, 2W, Isolated, AC-DC, IRM02-SMD; ki_keywords: Miniature Module-type Power Supply MeanWell; ki_fp_filters: Converter*ACDC*MeanWell*IRM*02*SMD*; Footprint: Converter_ACDC:Converter_ACDC_MeanWell_IRM-02-xx_SMD; Datasheet: https://www.meanwell.com/Upload/PDF/IRM-02/IRM-02-SPEC.PDF; Description_: 3.3V, 600mA, 2W, Isolated, AC-DC, IRM02-SMD
pins: 1 AC/L, 12 +Vo, 13 -Vo, 24 AC/N

## IRM-02-5
designator *  value IRM-02-5  Reference: PS
5V, 400mA, 2W, Isolated, AC-DC, IRM02; ki_keywords: Miniature Module-type Power Supply MeanWell; ki_fp_filters: Converter*ACDC*MeanWell*IRM*02*THT*; Footprint: Converter_ACDC:Converter_ACDC_MeanWell_IRM-02-xx_THT; Datasheet: https://www.meanwell.com/Upload/PDF/IRM-02/IRM-02-SPEC.PDF; Description_: 5V, 400mA, 2W, Isolated, AC-DC, IRM02
pins: 1 AC/N, 2 AC/L, 3 -Vo, 4 +Vo

## IRM-02-5S
designator *  value IRM-02-5S  Reference: PS
5V, 400mA, 2W, Isolated, AC-DC, IRM02-SMD; ki_keywords: Miniature Module-type Power Supply MeanWell; ki_fp_filters: Converter*ACDC*MeanWell*IRM*02*SMD*; Footprint: Converter_ACDC:Converter_ACDC_MeanWell_IRM-02-xx_SMD; Datasheet: https://www.meanwell.com/Upload/PDF/IRM-02/IRM-02-SPEC.PDF; Description_: 5V, 400mA, 2W, Isolated, AC-DC, IRM02-SMD
pins: 1 AC/L, 12 +Vo, 13 -Vo, 24 AC/N

## IRM-02-9
designator *  value IRM-02-9  Reference: PS
9V, 222mA, 2W, Isolated, AC-DC, IRM02; ki_keywords: Miniature Module-type Power Supply MeanWell; ki_fp_filters: Converter*ACDC*MeanWell*IRM*02*THT*; Footprint: Converter_ACDC:Converter_ACDC_MeanWell_IRM-02-xx_THT; Datasheet: https://www.meanwell.com/Upload/PDF/IRM-02/IRM-02-SPEC.PDF; Description_: 9V, 222mA, 2W, Isolated, AC-DC, IRM02
pins: 1 AC/N, 2 AC/L, 3 -Vo, 4 +Vo

## IRM-02-9S
designator *  value IRM-02-9S  Reference: PS
9V, 222mA, 2W, Isolated, AC-DC, IRM02-SMD; ki_keywords: Miniature Module-type Power Supply MeanWell; ki_fp_filters: Converter*ACDC*MeanWell*IRM*02*SMD*; Footprint: Converter_ACDC:Converter_ACDC_MeanWell_IRM-02-xx_SMD; Datasheet: https://www.meanwell.com/Upload/PDF/IRM-02/IRM-02-SPEC.PDF; Description_: 9V, 222mA, 2W, Isolated, AC-DC, IRM02-SMD
pins: 1 AC/L, 12 +Vo, 13 -Vo, 24 AC/N

## IRM-02-12
designator *  value IRM-02-12  Reference: PS
12V, 167mA, 2W, Isolated, AC-DC, IRM02; ki_keywords: Miniature Module-type Power Supply MeanWell; ki_fp_filters: Converter*ACDC*MeanWell*IRM*02*THT*; Footprint: Converter_ACDC:Converter_ACDC_MeanWell_IRM-02-xx_THT; Datasheet: https://www.meanwell.com/Upload/PDF/IRM-02/IRM-02-SPEC.PDF; Description_: 12V, 167mA, 2W, Isolated, AC-DC, IRM02
pins: 1 AC/N, 2 AC/L, 3 -Vo, 4 +Vo

## IRM-02-12S
designator *  value IRM-02-12S  Reference: PS
12V, 167mA, 2W, Isolated, AC-DC, IRM02-SMD; ki_keywords: Miniature Module-type Power Supply MeanWell; ki_fp_filters: Converter*ACDC*MeanWell*IRM*02*SMD*; Footprint: Converter_ACDC:Converter_ACDC_MeanWell_IRM-02-xx_SMD; Datasheet: https://www.meanwell.com/Upload/PDF/IRM-02/IRM-02-SPEC.PDF; Description_: 12V, 167mA, 2W, Isolated, AC-DC, IRM02-SMD
pins: 1 AC/L, 12 +Vo, 13 -Vo, 24 AC/N

## IRM-02-15
designator *  value IRM-02-15  Reference: PS
15V, 133mA, 2W, Isolated, AC-DC, IRM02; ki_keywords: Miniature Module-type Power Supply MeanWell; ki_fp_filters: Converter*ACDC*MeanWell*IRM*02*THT*; Footprint: Converter_ACDC:Converter_ACDC_MeanWell_IRM-02-xx_THT; Datasheet: https://www.meanwell.com/Upload/PDF/IRM-02/IRM-02-SPEC.PDF; Description_: 15V, 133mA, 2W, Isolated, AC-DC, IRM02
pins: 1 AC/N, 2 AC/L, 3 -Vo, 4 +Vo

## IRM-02-15S
designator *  value IRM-02-15S  Reference: PS
15V, 133mA, 2W, Isolated, AC-DC, IRM02-SMD; ki_keywords: Miniature Module-type Power Supply MeanWell; ki_fp_filters: Converter*ACDC*MeanWell*IRM*02*SMD*; Footprint: Converter_ACDC:Converter_ACDC_MeanWell_IRM-02-xx_SMD; Datasheet: https://www.meanwell.com/Upload/PDF/IRM-02/IRM-02-SPEC.PDF; Description_: 15V, 133mA, 2W, Isolated, AC-DC, IRM02-SMD
pins: 1 AC/L, 12 +Vo, 13 -Vo, 24 AC/N

## IRM-02-24
designator *  value IRM-02-24  Reference: PS
24V, 83mA, 2W, Isolated, AC-DC, IRM02; ki_keywords: Miniature Module-type Power Supply MeanWell; ki_fp_filters: Converter*ACDC*MeanWell*IRM*02*THT*; Footprint: Converter_ACDC:Converter_ACDC_MeanWell_IRM-02-xx_THT; Datasheet: https://www.meanwell.com/Upload/PDF/IRM-02/IRM-02-SPEC.PDF; Description_: 24V, 83mA, 2W, Isolated, AC-DC, IRM02
pins: 1 AC/N, 2 AC/L, 3 -Vo, 4 +Vo

## IRM-02-24S
designator *  value IRM-02-24S  Reference: PS
24V, 83mA, 2W, Isolated, AC-DC, IRM02-SMD; ki_keywords: Miniature Module-type Power Supply MeanWell; ki_fp_filters: Converter*ACDC*MeanWell*IRM*02*SMD*; Footprint: Converter_ACDC:Converter_ACDC_MeanWell_IRM-02-xx_SMD; Datasheet: https://www.meanwell.com/Upload/PDF/IRM-02/IRM-02-SPEC.PDF; Description_: 24V, 83mA, 2W, Isolated, AC-DC, IRM02-SMD
pins: 1 AC/L, 12 +Vo, 13 -Vo, 24 AC/N

## IRM-03-3.3
designator *  value IRM-03-3.3  Reference: PS
3.3V, 900mA, 3W, Isolated, AC-DC, IRM03; ki_keywords: Miniature Module-type Power Supply MeanWell; ki_fp_filters: Converter*ACDC*MeanWell*IRM*03*THT*; Footprint: Converter_ACDC:Converter_ACDC_MeanWell_IRM-03-xx_THT; Datasheet: https://www.meanwell.com/Upload/PDF/IRM-03/IRM-03-SPEC.PDF; Description_: 3.3V, 900mA, 3W, Isolated, AC-DC, IRM03
pins: 1 AC/L, 3 AC/N, 5 NC, 14 -Vo, 16 +Vo

## IRM-03-3.3S
designator *  value IRM-03-3.3S  Reference: PS
3.3V, 900mA, 3W, Isolated, AC-DC, IRM03-SMD; ki_keywords: Miniature Module-type Power Supply MeanWell; ki_fp_filters: Converter*ACDC*MeanWell*IRM*03*SMD*; Footprint: Converter_ACDC:Converter_ACDC_MeanWell_IRM-03-xx_SMD; Datasheet: https://www.meanwell.com/Upload/PDF/IRM-03/IRM-03-SPEC.PDF; Description_: 3.3V, 900mA, 3W, Isolated, AC-DC, IRM03-SMD
pins: 1 AC/L, 3 AC/N, 14 -Vo, 16 +Vo

## IRM-03-5
designator *  value IRM-03-5  Reference: PS
5V, 600mA, 3W, Isolated, AC-DC, IRM03; ki_keywords: Miniature Module-type Power Supply MeanWell; ki_fp_filters: Converter*ACDC*MeanWell*IRM*03*THT*; Footprint: Converter_ACDC:Converter_ACDC_MeanWell_IRM-03-xx_THT; Datasheet: https://www.meanwell.com/Upload/PDF/IRM-03/IRM-03-SPEC.PDF; Description_: 5V, 600mA, 3W, Isolated, AC-DC, IRM03
pins: 1 AC/L, 3 AC/N, 5 NC, 14 -Vo, 16 +Vo

## IRM-03-5S
designator *  value IRM-03-5S  Reference: PS
5V, 600mA, 3W, Isolated, AC-DC, IRM03-SMD; ki_keywords: Miniature Module-type Power Supply MeanWell; ki_fp_filters: Converter*ACDC*MeanWell*IRM*03*SMD*; Footprint: Converter_ACDC:Converter_ACDC_MeanWell_IRM-03-xx_SMD; Datasheet: https://www.meanwell.com/Upload/PDF/IRM-03/IRM-03-SPEC.PDF; Description_: 5V, 600mA, 3W, Isolated, AC-DC, IRM03-SMD
pins: 1 AC/L, 3 AC/N, 14 -Vo, 16 +Vo

## IRM-03-9
designator *  value IRM-03-9  Reference: PS
9V, 333mA, 3W, Isolated, AC-DC, IRM03; ki_keywords: Miniature Module-type Power Supply MeanWell; ki_fp_filters: Converter*ACDC*MeanWell*IRM*03*THT*; Footprint: Converter_ACDC:Converter_ACDC_MeanWell_IRM-03-xx_THT; Datasheet: https://www.meanwell.com/Upload/PDF/IRM-03/IRM-03-SPEC.PDF; Description_: 9V, 333mA, 3W, Isolated, AC-DC, IRM03
pins: 1 AC/L, 3 AC/N, 5 NC, 14 -Vo, 16 +Vo

## IRM-03-9S
designator *  value IRM-03-9S  Reference: PS
9V, 333mA, 3W, Isolated, AC-DC, IRM03-SMD; ki_keywords: Miniature Module-type Power Supply MeanWell; ki_fp_filters: Converter*ACDC*MeanWell*IRM*03*SMD*; Footprint: Converter_ACDC:Converter_ACDC_MeanWell_IRM-03-xx_SMD; Datasheet: https://www.meanwell.com/Upload/PDF/IRM-03/IRM-03-SPEC.PDF; Description_: 9V, 333mA, 3W, Isolated, AC-DC, IRM03-SMD
pins: 1 AC/L, 3 AC/N, 14 -Vo, 16 +Vo

## IRM-03-12
designator *  value IRM-03-12  Reference: PS
12V, 250mA, 3W, Isolated, AC-DC, IRM03; ki_keywords: Miniature Module-type Power Supply MeanWell; ki_fp_filters: Converter*ACDC*MeanWell*IRM*03*THT*; Footprint: Converter_ACDC:Converter_ACDC_MeanWell_IRM-03-xx_THT; Datasheet: https://www.meanwell.com/Upload/PDF/IRM-03/IRM-03-SPEC.PDF; Description_: 12V, 250mA, 3W, Isolated, AC-DC, IRM03
pins: 1 AC/L, 3 AC/N, 5 NC, 14 -Vo, 16 +Vo

## IRM-03-12S
designator *  value IRM-03-12S  Reference: PS
12V, 250mA, 3W, Isolated, AC-DC, IRM03-SMD; ki_keywords: Miniature Module-type Power Supply MeanWell; ki_fp_filters: Converter*ACDC*MeanWell*IRM*03*SMD*; Footprint: Converter_ACDC:Converter_ACDC_MeanWell_IRM-03-xx_SMD; Datasheet: https://www.meanwell.com/Upload/PDF/IRM-03/IRM-03-SPEC.PDF; Description_: 12V, 250mA, 3W, Isolated, AC-DC, IRM03-SMD
pins: 1 AC/L, 3 AC/N, 14 -Vo, 16 +Vo

## IRM-03-15
designator *  value IRM-03-15  Reference: PS
15V, 200mA, 3W, Isolated, AC-DC, IRM03; ki_keywords: Miniature Module-type Power Supply MeanWell; ki_fp_filters: Converter*ACDC*MeanWell*IRM*03*THT*; Footprint: Converter_ACDC:Converter_ACDC_MeanWell_IRM-03-xx_THT; Datasheet: https://www.meanwell.com/Upload/PDF/IRM-03/IRM-03-SPEC.PDF; Description_: 15V, 200mA, 3W, Isolated, AC-DC, IRM03
pins: 1 AC/L, 3 AC/N, 5 NC, 14 -Vo, 16 +Vo

## IRM-03-15S
designator *  value IRM-03-15S  Reference: PS
15V, 200mA, 3W, Isolated, AC-DC, IRM03-SMD; ki_keywords: Miniature Module-type Power Supply MeanWell; ki_fp_filters: Converter*ACDC*MeanWell*IRM*03*SMD*; Footprint: Converter_ACDC:Converter_ACDC_MeanWell_IRM-03-xx_SMD; Datasheet: https://www.meanwell.com/Upload/PDF/IRM-03/IRM-03-SPEC.PDF; Description_: 15V, 200mA, 3W, Isolated, AC-DC, IRM03-SMD
pins: 1 AC/L, 3 AC/N, 14 -Vo, 16 +Vo

## IRM-03-24
designator *  value IRM-03-24  Reference: PS
24V, 125mA, 3W, Isolated, AC-DC, IRM03; ki_keywords: Miniature Module-type Power Supply MeanWell; ki_fp_filters: Converter*ACDC*MeanWell*IRM*03*THT*; Footprint: Converter_ACDC:Converter_ACDC_MeanWell_IRM-03-xx_THT; Datasheet: https://www.meanwell.com/Upload/PDF/IRM-03/IRM-03-SPEC.PDF; Description_: 24V, 125mA, 3W, Isolated, AC-DC, IRM03
pins: 1 AC/L, 3 AC/N, 5 NC, 14 -Vo, 16 +Vo

## IRM-03-24S
designator *  value IRM-03-24S  Reference: PS
24V, 125mA, 3W, Isolated, AC-DC, IRM03-SMD; ki_keywords: Miniature Module-type Power Supply MeanWell; ki_fp_filters: Converter*ACDC*MeanWell*IRM*03*SMD*; Footprint: Converter_ACDC:Converter_ACDC_MeanWell_IRM-03-xx_SMD; Datasheet: https://www.meanwell.com/Upload/PDF/IRM-03/IRM-03-SPEC.PDF; Description_: 24V, 125mA, 3W, Isolated, AC-DC, IRM03-SMD
pins: 1 AC/L, 3 AC/N, 14 -Vo, 16 +Vo

## IRM-05-3.3
designator *  value IRM-05-3.3  Reference: PS
3.3V, 1.25A, 4.125W, Isolated, AC-DC, 222A(IRM05); ki_keywords: Miniature Module-type Power Supply MeanWell; ki_fp_filters: Converter*ACDC*MeanWell*IRM*05*THT*; Footprint: Converter_ACDC:Converter_ACDC_MeanWell_IRM-05-xx_THT; Datasheet: https://www.meanwell.com/Upload/PDF/IRM-05/IRM-05-SPEC.PDF; Description_: 3.3V, 1.25A, 4.125W, Isolated, AC-DC, 222A(IRM05)
pins: 1 AC/N, 2 AC/L, 3 -Vo, 4 +Vo

## IRM-05-5
designator *  value IRM-05-5  Reference: PS
5V, 1A, 5W, Isolated, AC-DC, 222A(IRM05); ki_keywords: Miniature Module-type Power Supply MeanWell; ki_fp_filters: Converter*ACDC*MeanWell*IRM*05*THT*; Footprint: Converter_ACDC:Converter_ACDC_MeanWell_IRM-05-xx_THT; Datasheet: https://www.meanwell.com/Upload/PDF/IRM-05/IRM-05-SPEC.PDF; Description_: 5V, 1A, 5W, Isolated, AC-DC, 222A(IRM05)
pins: 1 AC/N, 2 AC/L, 3 -Vo, 4 +Vo

## IRM-05-12
designator *  value IRM-05-12  Reference: PS
12V, 420mA, 5.04W, Isolated, AC-DC, 222A(IRM05); ki_keywords: Miniature Module-type Power Supply MeanWell; ki_fp_filters: Converter*ACDC*MeanWell*IRM*05*THT*; Footprint: Converter_ACDC:Converter_ACDC_MeanWell_IRM-05-xx_THT; Datasheet: https://www.meanwell.com/Upload/PDF/IRM-05/IRM-05-SPEC.PDF; Description_: 12V, 420mA, 5.04W, Isolated, AC-DC, 222A(IRM05)
pins: 1 AC/N, 2 AC/L, 3 -Vo, 4 +Vo

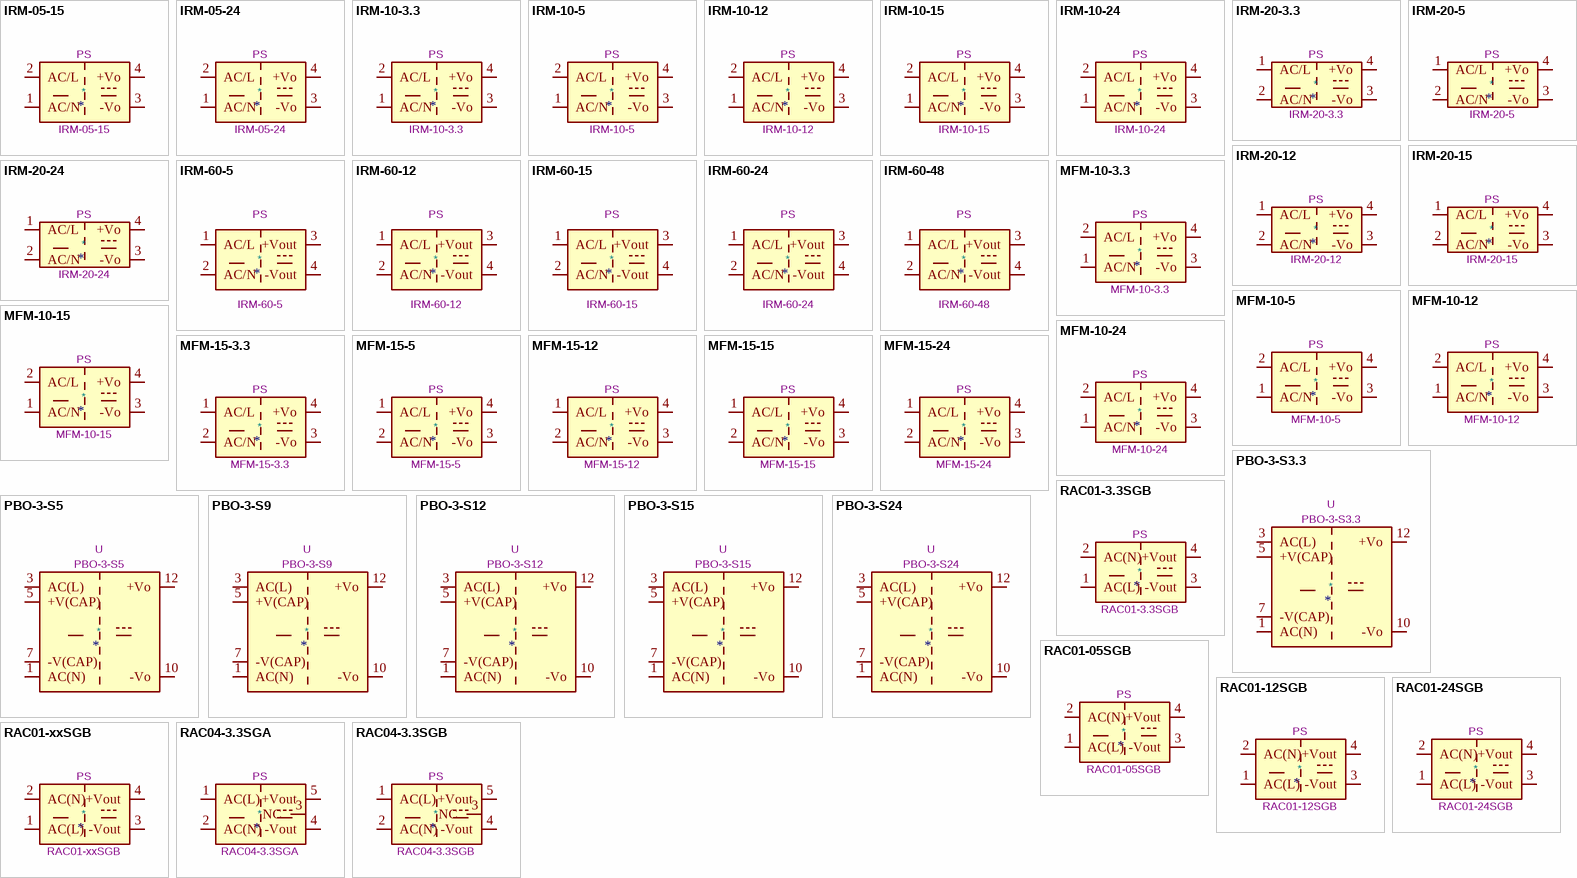
[diagram p2: symbols IRM-05-15 to RAC04-3.3SGB]

## IRM-05-15
designator *  value IRM-05-15  Reference: PS
15V, 330mA, 4.95W, Isolated, AC-DC, 222A(IRM05); ki_keywords: Miniature Module-type Power Supply MeanWell; ki_fp_filters: Converter*ACDC*MeanWell*IRM*05*THT*; Footprint: Converter_ACDC:Converter_ACDC_MeanWell_IRM-05-xx_THT; Datasheet: https://www.meanwell.com/Upload/PDF/IRM-05/IRM-05-SPEC.PDF; Description_: 15V, 330mA, 4.95W, Isolated, AC-DC, 222A(IRM05)
pins: 1 AC/N, 2 AC/L, 3 -Vo, 4 +Vo

## IRM-05-24
designator *  value IRM-05-24  Reference: PS
24V, 230mA, 5.52W, Isolated, AC-DC, 222A(IRM05); ki_keywords: Miniature Module-type Power Supply MeanWell; ki_fp_filters: Converter*ACDC*MeanWell*IRM*05*THT*; Footprint: Converter_ACDC:Converter_ACDC_MeanWell_IRM-05-xx_THT; Datasheet: https://www.meanwell.com/Upload/PDF/IRM-05/IRM-05-SPEC.PDF; Description_: 24V, 230mA, 5.52W, Isolated, AC-DC, 222A(IRM05)
pins: 1 AC/N, 2 AC/L, 3 -Vo, 4 +Vo

## IRM-10-3.3
designator *  value IRM-10-3.3  Reference: PS
3.3V, 2.5A, 8.25W, Isolated, AC-DC, 222A(IRM10); ki_keywords: Miniature Module-type Power Supply MeanWell; ki_fp_filters: Converter*ACDC*MeanWell*IRM*10*THT*; Footprint: Converter_ACDC:Converter_ACDC_MeanWell_IRM-10-xx_THT; Datasheet: https://www.meanwell.com/Upload/PDF/IRM-10/IRM-10-SPEC.PDF; Description_: 3.3V, 2.5A, 8.25W, Isolated, AC-DC, 222A(IRM10)
pins: 1 AC/N, 2 AC/L, 3 -Vo, 4 +Vo

## IRM-10-5
designator *  value IRM-10-5  Reference: PS
5V, 2A, 10W, Isolated, AC-DC, 222A(IRM10); ki_keywords: Miniature Module-type Power Supply MeanWell; ki_fp_filters: Converter*ACDC*MeanWell*IRM*10*THT*; Footprint: Converter_ACDC:Converter_ACDC_MeanWell_IRM-10-xx_THT; Datasheet: https://www.meanwell.com/Upload/PDF/IRM-10/IRM-10-SPEC.PDF; Description_: 5V, 2A, 10W, Isolated, AC-DC, 222A(IRM10)
pins: 1 AC/N, 2 AC/L, 3 -Vo, 4 +Vo

## IRM-10-12
designator *  value IRM-10-12  Reference: PS
12V, 850mA, 10.2W, Isolated, AC-DC, 222A(IRM10); ki_keywords: Miniature Module-type Power Supply MeanWell; ki_fp_filters: Converter*ACDC*MeanWell*IRM*10*THT*; Footprint: Converter_ACDC:Converter_ACDC_MeanWell_IRM-10-xx_THT; Datasheet: https://www.meanwell.com/Upload/PDF/IRM-10/IRM-10-SPEC.PDF; Description_: 12V, 850mA, 10.2W, Isolated, AC-DC, 222A(IRM10)
pins: 1 AC/N, 2 AC/L, 3 -Vo, 4 +Vo

## IRM-10-15
designator *  value IRM-10-15  Reference: PS
15V, 670mA, 10.05W, Isolated, AC-DC, 222A(IRM10); ki_keywords: Miniature Module-type Power Supply MeanWell; ki_fp_filters: Converter*ACDC*MeanWell*IRM*10*THT*; Footprint: Converter_ACDC:Converter_ACDC_MeanWell_IRM-10-xx_THT; Datasheet: https://www.meanwell.com/Upload/PDF/IRM-10/IRM-10-SPEC.PDF; Description_: 15V, 670mA, 10.05W, Isolated, AC-DC, 222A(IRM10)
pins: 1 AC/N, 2 AC/L, 3 -Vo, 4 +Vo

## IRM-10-24
designator *  value IRM-10-24  Reference: PS
24V, 420mA, 10.08W, Isolated, AC-DC, 222A(IRM10); ki_keywords: Miniature Module-type Power Supply MeanWell; ki_fp_filters: Converter*ACDC*MeanWell*IRM*10*THT*; Footprint: Converter_ACDC:Converter_ACDC_MeanWell_IRM-10-xx_THT; Datasheet: https://www.meanwell.com/Upload/PDF/IRM-10/IRM-10-SPEC.PDF; Description_: 24V, 420mA, 10.08W, Isolated, AC-DC, 222A(IRM10)
pins: 1 AC/N, 2 AC/L, 3 -Vo, 4 +Vo

## IRM-20-3.3
designator *  value IRM-20-3.3  Reference: PS
3.3V, 4.5A, 14.85W, Isolated, AC-DC, 219A(IRM20); ki_keywords: Miniature Module-type Power Supply MeanWell; ki_fp_filters: Converter*ACDC*MeanWell*IRM*20*THT*; Footprint: Converter_ACDC:Converter_ACDC_MeanWell_IRM-20-xx_THT; Datasheet: http://www.meanwell.com/Upload/PDF/IRM-20/IRM-20-SPEC.PDF; Description_: 3.3V, 4.5A, 14.85W, Isolated, AC-DC, 219A(IRM20)
pins: 1 AC/L, 2 AC/N, 3 -Vo, 4 +Vo

## IRM-20-5
designator *  value IRM-20-5  Reference: PS
5V, 4A, 20W, Isolated, AC-DC, 219A(IRM20); ki_keywords: Miniature Module-type Power Supply MeanWell; ki_fp_filters: Converter*ACDC*MeanWell*IRM*20*THT*; Footprint: Converter_ACDC:Converter_ACDC_MeanWell_IRM-20-xx_THT; Datasheet: http://www.meanwell.com/Upload/PDF/IRM-20/IRM-20-SPEC.PDF; Description_: 5V, 4A, 20W, Isolated, AC-DC, 219A(IRM20)
pins: 1 AC/L, 2 AC/N, 3 -Vo, 4 +Vo

## IRM-20-12
designator *  value IRM-20-12  Reference: PS
12V, 1.8A, 21.6W, Isolated, AC-DC, 219A(IRM20); ki_keywords: Miniature Module-type Power Supply MeanWell; ki_fp_filters: Converter*ACDC*MeanWell*IRM*20*THT*; Footprint: Converter_ACDC:Converter_ACDC_MeanWell_IRM-20-xx_THT; Datasheet: http://www.meanwell.com/Upload/PDF/IRM-20/IRM-20-SPEC.PDF; Description_: 12V, 1.8A, 21.6W, Isolated, AC-DC, 219A(IRM20)
pins: 1 AC/L, 2 AC/N, 3 -Vo, 4 +Vo

## IRM-20-15
designator *  value IRM-20-15  Reference: PS
15V, 1.4A, 21W, Isolated, AC-DC, 219A(IRM20); ki_keywords: Miniature Module-type Power Supply MeanWell; ki_fp_filters: Converter*ACDC*MeanWell*IRM*20*THT*; Footprint: Converter_ACDC:Converter_ACDC_MeanWell_IRM-20-xx_THT; Datasheet: http://www.meanwell.com/Upload/PDF/IRM-20/IRM-20-SPEC.PDF; Description_: 15V, 1.4A, 21W, Isolated, AC-DC, 219A(IRM20)
pins: 1 AC/L, 2 AC/N, 3 -Vo, 4 +Vo

## IRM-20-24
designator *  value IRM-20-24  Reference: PS
24V, 900mA, 21.6W, Isolated, AC-DC, 219A(IRM20); ki_keywords: Miniature Module-type Power Supply MeanWell; ki_fp_filters: Converter*ACDC*MeanWell*IRM*20*THT*; Footprint: Converter_ACDC:Converter_ACDC_MeanWell_IRM-20-xx_THT; Datasheet: http://www.meanwell.com/Upload/PDF/IRM-20/IRM-20-SPEC.PDF; Description_: 24V, 900mA, 21.6W, Isolated, AC-DC, 219A(IRM20)
pins: 1 AC/L, 2 AC/N, 3 -Vo, 4 +Vo

## IRM-60-5
designator *  value IRM-60-5  Reference: PS
5V, 10A, 50W, Isolated, AC-DC, IRM60; ki_keywords: Miniature Module-type Power Supply MeanWell; ki_fp_filters: Converter*ACDC*MeanWell*IRM*60*THT*; Footprint: Converter_ACDC:Converter_ACDC_MeanWell_IRM-60-xx_THT; Datasheet: http://www.meanwellusa.com/productPdf.aspx?i=687; Description_: 5V, 10A, 50W, Isolated, AC-DC, IRM60
pins: 1 AC/L, 2 AC/N, 3 +Vout, 4 -Vout

## IRM-60-12
designator *  value IRM-60-12  Reference: PS
12V, 5A, 60W, Isolated, AC-DC, IRM60; ki_keywords: Miniature Module-type Power Supply MeanWell; ki_fp_filters: Converter*ACDC*MeanWell*IRM*60*THT*; Footprint: Converter_ACDC:Converter_ACDC_MeanWell_IRM-60-xx_THT; Datasheet: http://www.meanwellusa.com/productPdf.aspx?i=687; Description_: 12V, 5A, 60W, Isolated, AC-DC, IRM60
pins: 1 AC/L, 2 AC/N, 3 +Vout, 4 -Vout

## IRM-60-15
designator *  value IRM-60-15  Reference: PS
15V, 4A, 60W, Isolated, AC-DC, IRM60; ki_keywords: Miniature Module-type Power Supply MeanWell; ki_fp_filters: Converter*ACDC*MeanWell*IRM*60*THT*; Footprint: Converter_ACDC:Converter_ACDC_MeanWell_IRM-60-xx_THT; Datasheet: http://www.meanwellusa.com/productPdf.aspx?i=687; Description_: 15V, 4A, 60W, Isolated, AC-DC, IRM60
pins: 1 AC/L, 2 AC/N, 3 +Vout, 4 -Vout

## IRM-60-24
designator *  value IRM-60-24  Reference: PS
24V, 2.5A, 60W, Isolated, AC-DC, IRM60; ki_keywords: Miniature Module-type Power Supply MeanWell; ki_fp_filters: Converter*ACDC*MeanWell*IRM*60*THT*; Footprint: Converter_ACDC:Converter_ACDC_MeanWell_IRM-60-xx_THT; Datasheet: http://www.meanwellusa.com/productPdf.aspx?i=687; Description_: 24V, 2.5A, 60W, Isolated, AC-DC, IRM60
pins: 1 AC/L, 2 AC/N, 3 +Vout, 4 -Vout

## IRM-60-48
designator *  value IRM-60-48  Reference: PS
48V, 1.25A, 50W, Isolated, AC-DC, IRM60; ki_keywords: Miniature Module-type Power Supply MeanWell; ki_fp_filters: Converter*ACDC*MeanWell*IRM*60*THT*; Footprint: Converter_ACDC:Converter_ACDC_MeanWell_IRM-60-xx_THT; Datasheet: http://www.meanwellusa.com/productPdf.aspx?i=687; Description_: 48V, 1.25A, 50W, Isolated, AC-DC, IRM60
pins: 1 AC/L, 2 AC/N, 3 +Vout, 4 -Vout

## MFM-10-3.3
designator *  value MFM-10-3.3  Reference: PS
Meanwell AC/DC converter, 80-264VAC, output 3.3V, 10 watts; ki_keywords: Miniature Module-type Power Supply MeanWell; ki_fp_filters: Converter*ACDC*MeanWell*MFM*10*THT*; Footprint: Converter_ACDC:Converter_ACDC_MeanWell_MFM-10-xx_THT; Datasheet: https://www.meanwell-web.com/content/files/pdfs/productPdfs/MW/MFM-10/MFM-10-spec.pdf; Description_: Meanwell AC/DC converter, 80-264VAC, output 3.3V, 10 watts
pins: 1 AC/N, 2 AC/L, 3 -Vo, 4 +Vo